# EAGLE library part L298P (library maus)
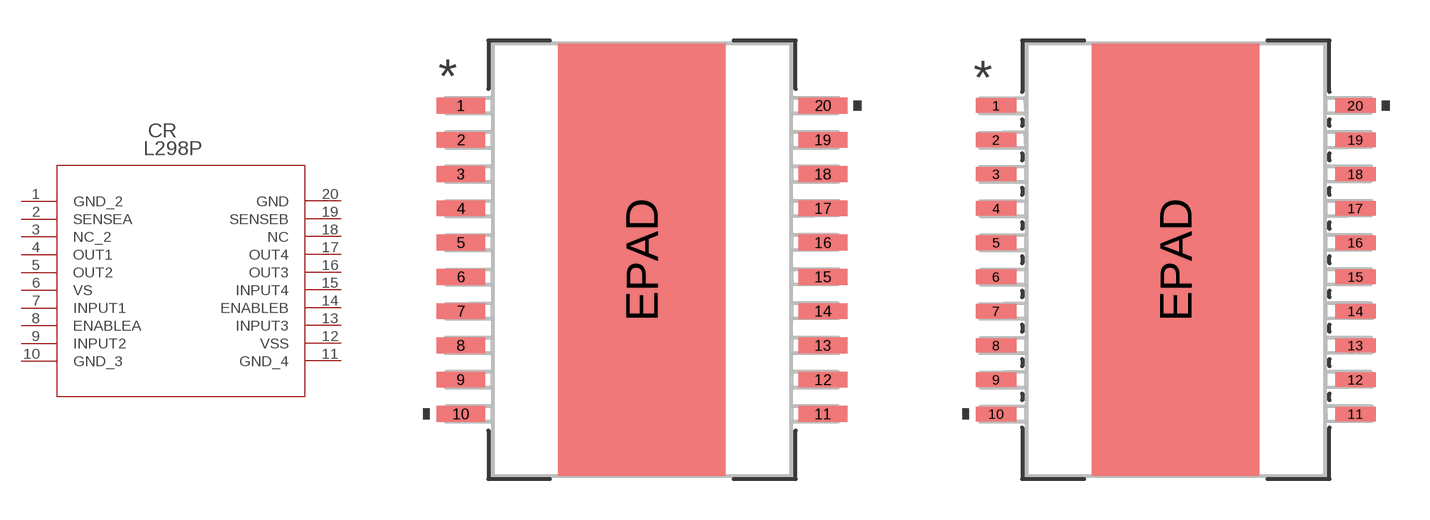
[diagram p7: symbol with the pads of POWERSO-20_STM; footprints POWERSO-20_STM, POWERSO-20_STM-L]

Designator prefix CR

## L298P (COPYRIGHT: Copyright (C) 2022 Ultra Librarian. All rights reserved.; MANUFACTURER_PART_NUMBER: L298P; MFR_NAME: STMicroelectronics)  [POWERSO-20_STM]
1  GND_2  pas
2  SENSEA  in
3  NC_2  nc
4  OUT1  out
5  OUT2  out
6  VS  pwr
7  INPUT1  in
8  ENABLEA  in
9  INPUT2  in
10  GND_3  pas
11  GND_4  pas
12  VSS  pwr
13  INPUT3  in
14  ENABLEB  in
15  INPUT4  in
16  OUT3  out
17  OUT4  out
18  NC  nc
19  SENSEB  in
20  GND  pas

## L298PPOWERSO-20_STM-L (COPYRIGHT: Copyright (C) 2022 Ultra Librarian. All rights reserved.; MANUFACTURER_PART_NUMBER: L298P; MFR_NAME: STMicroelectronics)  [POWERSO-20_STM-L]
Pads as for POWERSO-20_STM

## L298PPOWERSO-20_STM-M (COPYRIGHT: Copyright (C) 2022 Ultra Librarian. All rights reserved.; MANUFACTURER_PART_NUMBER: L298P; MFR_NAME: STMicroelectronics)  [POWERSO-20_STM-M]
Pads as for POWERSO-20_STM

## Footprint POWERSO-20_STM (pad centres in mm)
smd 1.803 x 0.584: 1 -6.706,5.715; 2 -6.706,4.445; 3 -6.706,3.175; 4 -6.706,1.905; 5 -6.706,0.635; 6 -6.706,-0.635; 7 -6.706,-1.905; 8 -6.706,-3.175; 9 -6.706,-4.445; 10 -6.706,-5.715; 11 6.706,-5.715; 12 6.706,-4.445; 13 6.706,-3.175; 14 6.706,-1.905; 15 6.706,-0.635; 16 6.706,0.635; 17 6.706,1.905; 18 6.706,3.175; 19 6.706,4.445; 20 6.706,5.715
smd 6.198 x 16.002: EPAD 0,0

## Footprint POWERSO-20_STM-L (pad centres in mm)
smd 1.499 x 0.533: 1 -6.655,5.715; 2 -6.655,4.445; 3 -6.655,3.175; 4 -6.655,1.905; 5 -6.655,0.635; 6 -6.655,-0.635; 7 -6.655,-1.905; 8 -6.655,-3.175; 9 -6.655,-4.445; 10 -6.655,-5.715; 11 6.655,-5.715; 12 6.655,-4.445; 13 6.655,-3.175; 14 6.655,-1.905; 15 6.655,-0.635; 16 6.655,0.635; 17 6.655,1.905; 18 6.655,3.175; 19 6.655,4.445; 20 6.655,5.715
smd 6.198 x 16.002: EPAD 0,0

## Footprint POWERSO-20_STM-M (pad centres in mm)
smd 2.108 x 0.584: 1 -6.756,5.715; 2 -6.756,4.445; 3 -6.756,3.175; 4 -6.756,1.905; 5 -6.756,0.635; 6 -6.756,-0.635; 7 -6.756,-1.905; 8 -6.756,-3.175; 9 -6.756,-4.445; 10 -6.756,-5.715; 11 6.756,-5.715; 12 6.756,-4.445; 13 6.756,-3.175; 14 6.756,-1.905; 15 6.756,-0.635; 16 6.756,0.635; 17 6.756,1.905; 18 6.756,3.175; 19 6.756,4.445; 20 6.756,5.715
smd 6.198 x 16.002: EPAD 0,0